# Altium schematic symbol library ADP7159ACPZ-04-R7.SchLib: 1 symbol
Pins are listed as number, name and electrical type; pins without a type are passive.

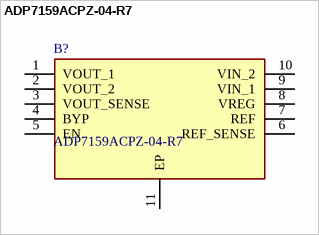
[diagram p0: symbol ADP7159ACPZ-04-R7]

## ADP7159ACPZ-04-R7
designator B?
LDO Voltage Regulators 3.3/5Vin 2A Ultra Low Noise LDO, ADJ; Manufacturer_Name: Analog Devices; Geometry.Height: 0.85mm; Mouser Part Number: 584-ADP7159ACPZ04R7; Mouser Price/Stock: https://www.mouser.co.uk/ProductDetail/Analog-Devices/ADP7159ACPZ-04-R7?qs=JeIcUl65ClBXEAZRPtHUVQ%3D%3D; Manufacturer_Part_Number: ADP7159ACPZ-04-R7; Datasheet Link: https://www.analog.com/media/en/technical-documentation/data-sheets/ADP7159.pdf
footprint SON50P300X300X85-11N-D
pins: 1 VOUT_1, 2 VOUT_2, 3 VOUT_SENSE, 4 BYP, 5 EN, 6 REF_SENSE, 7 REF, 8 VREG, 9 VIN_1, 10 VIN_2, 11 EP